# Altium footprint library Fuse.PcbLib: 123 footprints (part 4 of 8)
Each footprint in its own frame and in the unit in brackets; x right, y up, seen from the top. Pads: shape width x height; smd on the part's side, far side on the other; paste and mask are expansions set on the pad; w line width, h text height; cw(c..) or ccw(c..) is an arc to the next point about the centre after c.
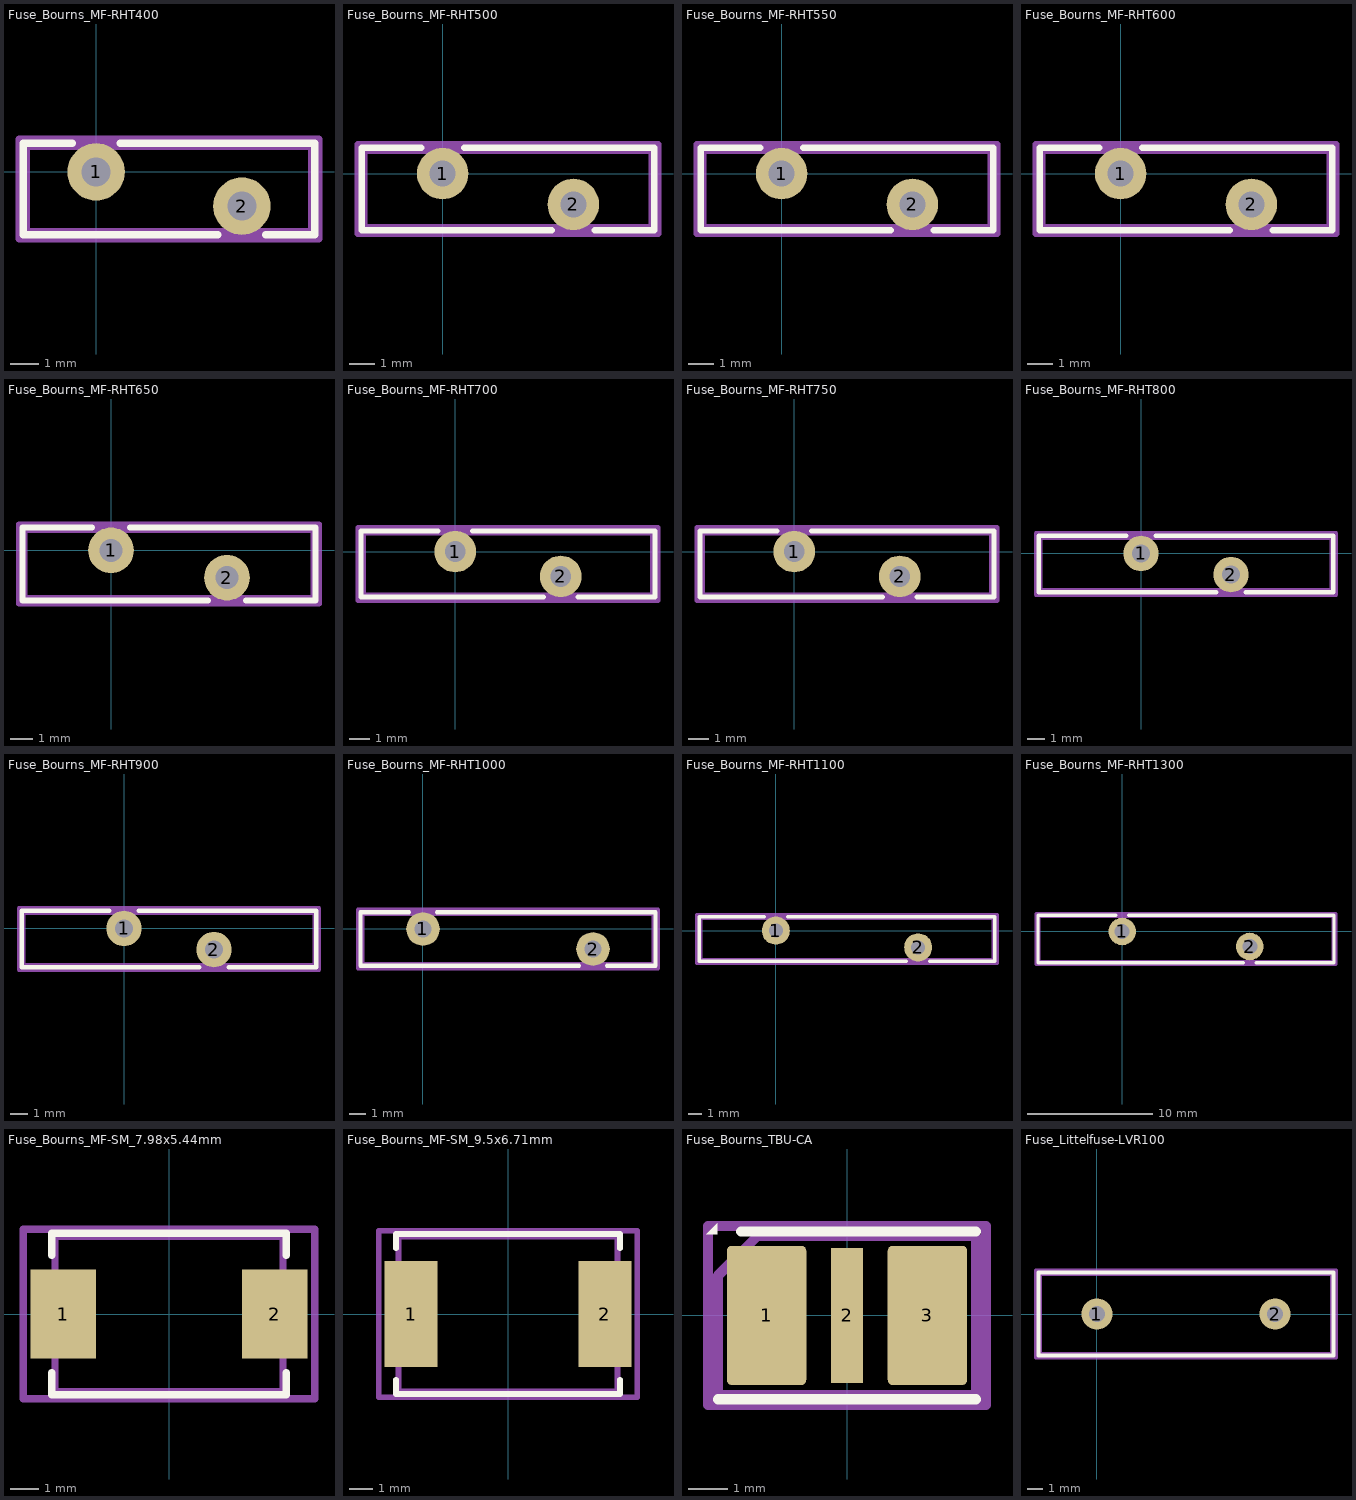
[diagram p3: the footprints below, top view; thin cyan lines are the x and y axes]

## Fuse_Bourns_MF-RHT400 [mm]
pads (2):
  round 2.01 hole 1.01: 1(0,0) 2(5.1,-1.2)
F.SilkS:
  lines w0.254: -0.838,1 -2.55,1 -2.55,-2.2 4.262,-2.2 ; 0.838,1 7.65,1 7.65,-2.2 5.938,-2.2
Top Assembly:
  lines w0.254: -2.45,-2.1 7.55,-2.1 7.55,0.9 -2.45,0.9 -2.45,-2.1
  text "'.Designator'" at -1.497,-1.44 h1
Top Courtyard:
  lines w0.254: -2.7,-2.35 7.8,-2.35 7.8,1.15 -2.7,1.15 -2.7,-2.35
Top Designator:
  text ".Designator" at -5.068,-1.108 h1.52

## Fuse_Bourns_MF-RHT500 [mm]
pads (2):
  round 2.01 hole 1.01: 1(0,0) 2(5.1,-1.2)
F.SilkS:
  lines w0.254: -0.838,1 -3.15,1 -3.15,-2.2 4.262,-2.2 ; 0.838,1 8.25,1 8.25,-2.2 5.938,-2.2
Top Assembly:
  lines w0.254: -3.05,-2.1 8.15,-2.1 8.15,0.9 -3.05,0.9 -3.05,-2.1
  text "'.Designator'" at -1.497,-1.44 h1
Top Courtyard:
  lines w0.254: -3.3,-2.35 8.4,-2.35 8.4,1.15 -3.3,1.15 -3.3,-2.35
Top Designator:
  text ".Designator" at -5.068,-1.108 h1.52

## Fuse_Bourns_MF-RHT550 [mm]
pads (2):
  round 2.01 hole 1.01: 1(0,0) 2(5.1,-1.2)
F.SilkS:
  lines w0.254: -0.838,1 -3.15,1 -3.15,-2.2 4.262,-2.2 ; 0.838,1 8.25,1 8.25,-2.2 5.938,-2.2
Top Assembly:
  lines w0.254: -3.05,-2.1 8.15,-2.1 8.15,0.9 -3.05,0.9 -3.05,-2.1
  text "'.Designator'" at -1.497,-1.44 h1
Top Courtyard:
  lines w0.254: -3.3,-2.35 8.4,-2.35 8.4,1.15 -3.3,1.15 -3.3,-2.35
Top Designator:
  text ".Designator" at -5.068,-1.108 h1.52

## Fuse_Bourns_MF-RHT600 [mm]
pads (2):
  round 2.01 hole 1.01: 1(0,0) 2(5.1,-1.2)
F.SilkS:
  lines w0.254: -0.838,1 -3.15,1 -3.15,-2.2 4.262,-2.2 ; 0.838,1 8.25,1 8.25,-2.2 5.938,-2.2
Top Assembly:
  lines w0.254: -3.05,-2.1 8.15,-2.1 8.15,0.9 -3.05,0.9 -3.05,-2.1
  text "'.Designator'" at -1.497,-1.44 h1
Top Courtyard:
  lines w0.254: -3.3,-2.35 8.4,-2.35 8.4,1.15 -3.3,1.15 -3.3,-2.35
Top Designator:
  text ".Designator" at -5.068,-1.108 h1.52

## Fuse_Bourns_MF-RHT650 [mm]
pads (2):
  round 2.01 hole 1.01: 1(0,0) 2(5.1,-1.2)
F.SilkS:
  lines w0.254: -0.838,1 -3.9,1 -3.9,-2.2 4.262,-2.2 ; 0.838,1 9,1 9,-2.2 5.938,-2.2
Top Assembly:
  lines w0.254: -3.8,-2.1 8.9,-2.1 8.9,0.9 -3.8,0.9 -3.8,-2.1
  text "'.Designator'" at -1.497,-1.44 h1
Top Courtyard:
  lines w0.254: -4.05,-2.35 9.15,-2.35 9.15,1.15 -4.05,1.15 -4.05,-2.35
Top Designator:
  text ".Designator" at -5.068,-1.108 h1.52

## Fuse_Bourns_MF-RHT700 [mm]
pads (2):
  round 2.01 hole 1.01: 1(0,0) 2(5.1,-1.2)
F.SilkS:
  lines w0.254: -0.838,1 -4.55,1 -4.55,-2.2 4.262,-2.2 ; 0.838,1 9.65,1 9.65,-2.2 5.938,-2.2
Top Assembly:
  lines w0.254: -4.45,-2.1 9.55,-2.1 9.55,0.9 -4.45,0.9 -4.45,-2.1
  text "'.Designator'" at -1.497,-1.44 h1
Top Courtyard:
  lines w0.254: -4.7,-2.35 9.8,-2.35 9.8,1.15 -4.7,1.15 -4.7,-2.35
Top Designator:
  text ".Designator" at -5.068,-1.108 h1.52

## Fuse_Bourns_MF-RHT750 [mm]
pads (2):
  round 2.01 hole 1.01: 1(0,0) 2(5.1,-1.2)
F.SilkS:
  lines w0.254: -0.838,1 -4.55,1 -4.55,-2.2 4.262,-2.2 ; 0.838,1 9.65,1 9.65,-2.2 5.938,-2.2
Top Assembly:
  lines w0.254: -4.45,-2.1 9.55,-2.1 9.55,0.9 -4.45,0.9 -4.45,-2.1
  text "'.Designator'" at -1.497,-1.44 h1
Top Courtyard:
  lines w0.254: -4.7,-2.35 9.8,-2.35 9.8,1.15 -4.7,1.15 -4.7,-2.35
Top Designator:
  text ".Designator" at -5.068,-1.108 h1.52

## Fuse_Bourns_MF-RHT800 [mm]
pads (2):
  round 2.01 hole 1.01: 1(0,0) 2(5.1,-1.2)
F.SilkS:
  lines w0.254: -0.838,1 -5.8,1 -5.8,-2.2 4.262,-2.2 ; 0.838,1 10.9,1 10.9,-2.2 5.938,-2.2
Top Assembly:
  lines w0.254: -5.7,-2.1 10.8,-2.1 10.8,0.9 -5.7,0.9 -5.7,-2.1
  text "'.Designator'" at -1.497,-1.44 h1
Top Courtyard:
  lines w0.254: -5.95,-2.35 11.05,-2.35 11.05,1.15 -5.95,1.15 -5.95,-2.35
Top Designator:
  text ".Designator" at -5.068,-1.108 h1.52

## Fuse_Bourns_MF-RHT900 [mm]
pads (2):
  round 2.01 hole 1.01: 1(0,0) 2(5.1,-1.2)
F.SilkS:
  lines w0.254: -0.838,1 -5.8,1 -5.8,-2.2 4.262,-2.2 ; 0.838,1 10.9,1 10.9,-2.2 5.938,-2.2
Top Assembly:
  lines w0.254: -5.7,-2.1 10.8,-2.1 10.8,0.9 -5.7,0.9 -5.7,-2.1
  text "'.Designator'" at -1.497,-1.44 h1
Top Courtyard:
  lines w0.254: -5.95,-2.35 11.05,-2.35 11.05,1.15 -5.95,1.15 -5.95,-2.35
Top Designator:
  text ".Designator" at -5.068,-1.108 h1.52

## Fuse_Bourns_MF-RHT1000 [mm]
pads (2):
  round 2.01 hole 1.01: 1(0,0) 2(10.2,-1.2)
F.SilkS:
  lines w0.254: -0.838,1 -3.75,1 -3.75,-2.2 9.362,-2.2 ; 0.838,1 13.95,1 13.95,-2.2 11.038,-2.2
Top Assembly:
  lines w0.254: -3.65,-2.1 13.85,-2.1 13.85,0.9 -3.65,0.9 -3.65,-2.1
  text "'.Designator'" at 1.053,-1.44 h1
Top Courtyard:
  lines w0.254: -3.9,-2.35 14.1,-2.35 14.1,1.15 -3.9,1.15 -3.9,-2.35
Top Designator:
  text ".Designator" at -2.518,-1.108 h1.52

## Fuse_Bourns_MF-RHT1100 [mm]
pads (2):
  round 2.01 hole 1.01: 1(0,0) 2(10.2,-1.2)
F.SilkS:
  lines w0.254: -0.838,1 -5.5,1 -5.5,-2.2 9.362,-2.2 ; 0.838,1 15.7,1 15.7,-2.2 11.038,-2.2
Top Assembly:
  lines w0.254: -5.4,-2.1 15.6,-2.1 15.6,0.9 -5.4,0.9 -5.4,-2.1
  text "'.Designator'" at 1.053,-1.44 h1
Top Courtyard:
  lines w0.254: -5.65,-2.35 15.85,-2.35 15.85,1.15 -5.65,1.15 -5.65,-2.35
Top Designator:
  text ".Designator" at -2.518,-1.108 h1.52

## Fuse_Bourns_MF-RHT1300 [mm]
pads (2):
  round 2.2 hole 1.2: 1(0,0) 2(10.2,-1.2)
F.SilkS:
  lines w0.254: -0.52,1.3 -6.75,1.3 -6.75,-2.5 9.68,-2.5 ; 0.52,1.3 16.95,1.3 16.95,-2.5 10.72,-2.5
Top Assembly:
  lines w0.254: -6.65,-2.4 16.85,-2.4 16.85,1.2 -6.65,1.2 -6.65,-2.4
  text "'.Designator'" at 1.053,-1.44 h1
Top Courtyard:
  lines w0.254: -6.9,-2.65 17.1,-2.65 17.1,1.45 -6.9,1.45 -6.9,-2.65
Top Designator:
  text ".Designator" at -2.518,-1.108 h1.52

## Fuse_Bourns_MF-SM_7.98x5.44mm [mm]
pads (2):
  rect 2.3x3.1 smd: 1(-3.7,0) 2(3.7,0)
F.SilkS:
  lines w0.254: -4.1,-2.05 -4.1,-2.83 4.1,-2.83 4.1,-2.05 ; -4.1,2.05 -4.1,2.83 4.1,2.83 4.1,2.05
Top Assembly:
  lines w0.254: -3.99,-2.72 3.99,-2.72 3.99,2.72 -3.99,2.72 -3.99,-2.72
  text "'.Designator'" at -4.047,-0.84 h1
Top Courtyard:
  lines w0.254: -5.1,-2.97 5.1,-2.97 5.1,2.97 -5.1,2.97 -5.1,-2.97
Top Designator:
  text ".Designator" at -7.618,-0.508 h1.52

## Fuse_Bourns_MF-SM_9.5x6.71mm [mm]
pads (2):
  rect 2.3x4.6 smd: 1(-4.2,0) 2(4.2,0)
F.SilkS:
  lines w0.254: -4.86,-2.85 -4.86,-3.465 4.86,-3.465 4.86,-2.85 ; -4.86,2.85 -4.86,3.465 4.86,3.465 4.86,2.85
Top Assembly:
  lines w0.254: -4.75,-3.355 4.75,-3.355 4.75,3.355 -4.75,3.355 -4.75,-3.355
  text "'.Designator'" at -4.047,-0.84 h1
Top Courtyard:
  lines w0.254: -5.6,-3.61 5.6,-3.61 5.6,3.61 -5.6,3.61 -5.6,-3.61
Top Designator:
  text ".Designator" at -7.618,-0.508 h1.52

## Fuse_Bourns_TBU-CA [mm]
pads (3):
  rrect12% 2x3.5 smd: 1(-2.025,0) 3(2.025,0)
  rect 0.8x3.4 smd: 2(0,0)
F.SilkS:
  region: -3.26,2.04 -3.54,2.04 -3.26,2.32
  lines w0.254: -3.25,-2.11 3.25,-2.11 ; -2.67,2.11 3.25,2.11
Top Assembly:
  lines w0.254: -3.25,-2 3.25,-2 3.25,2 -2.25,2 -3.25,1 -3.25,-2
  text "'.Designator'" at -4.047,-0.84 h1
Top Courtyard:
  lines w0.254: -3.5,-2.25 3.5,-2.25 3.5,2.25 -3.5,2.25 -3.5,-2.25
Top Designator:
  text ".Designator" at -7.768,-0.508 h1.52

## Fuse_Littelfuse-LVR100 [mm]
pads (2):
  round 2 hole 1: 1(0,0) 2(11.4,0)
F.SilkS:
  lines w0.254: -3.75,-2.65 15.15,-2.65 15.15,2.65 -3.75,2.65 -3.75,-2.65
Top Assembly:
  lines w0.254: -3.65,-2.55 15.05,-2.55 15.05,2.55 -3.65,2.55 -3.65,-2.55
  text "'.Designator'" at 1.953,-0.84 h1
Top Courtyard:
  lines w0.254: -3.9,-2.8 15.3,-2.8 15.3,2.8 -3.9,2.8 -3.9,-2.8
Top Designator:
  text ".Designator" at -1.918,-0.508 h1.52